# Altium footprint library smd_capacitancies.PcbLib: 13 footprints
Each footprint in its own frame and in the unit in brackets; x right, y up, seen from the top. Pads: shape width x height; smd on the part's side, far side on the other; paste and mask are expansions set on the pad; w line width, h text height; cw(c..) or ccw(c..) is an arc to the next point about the centre after c.
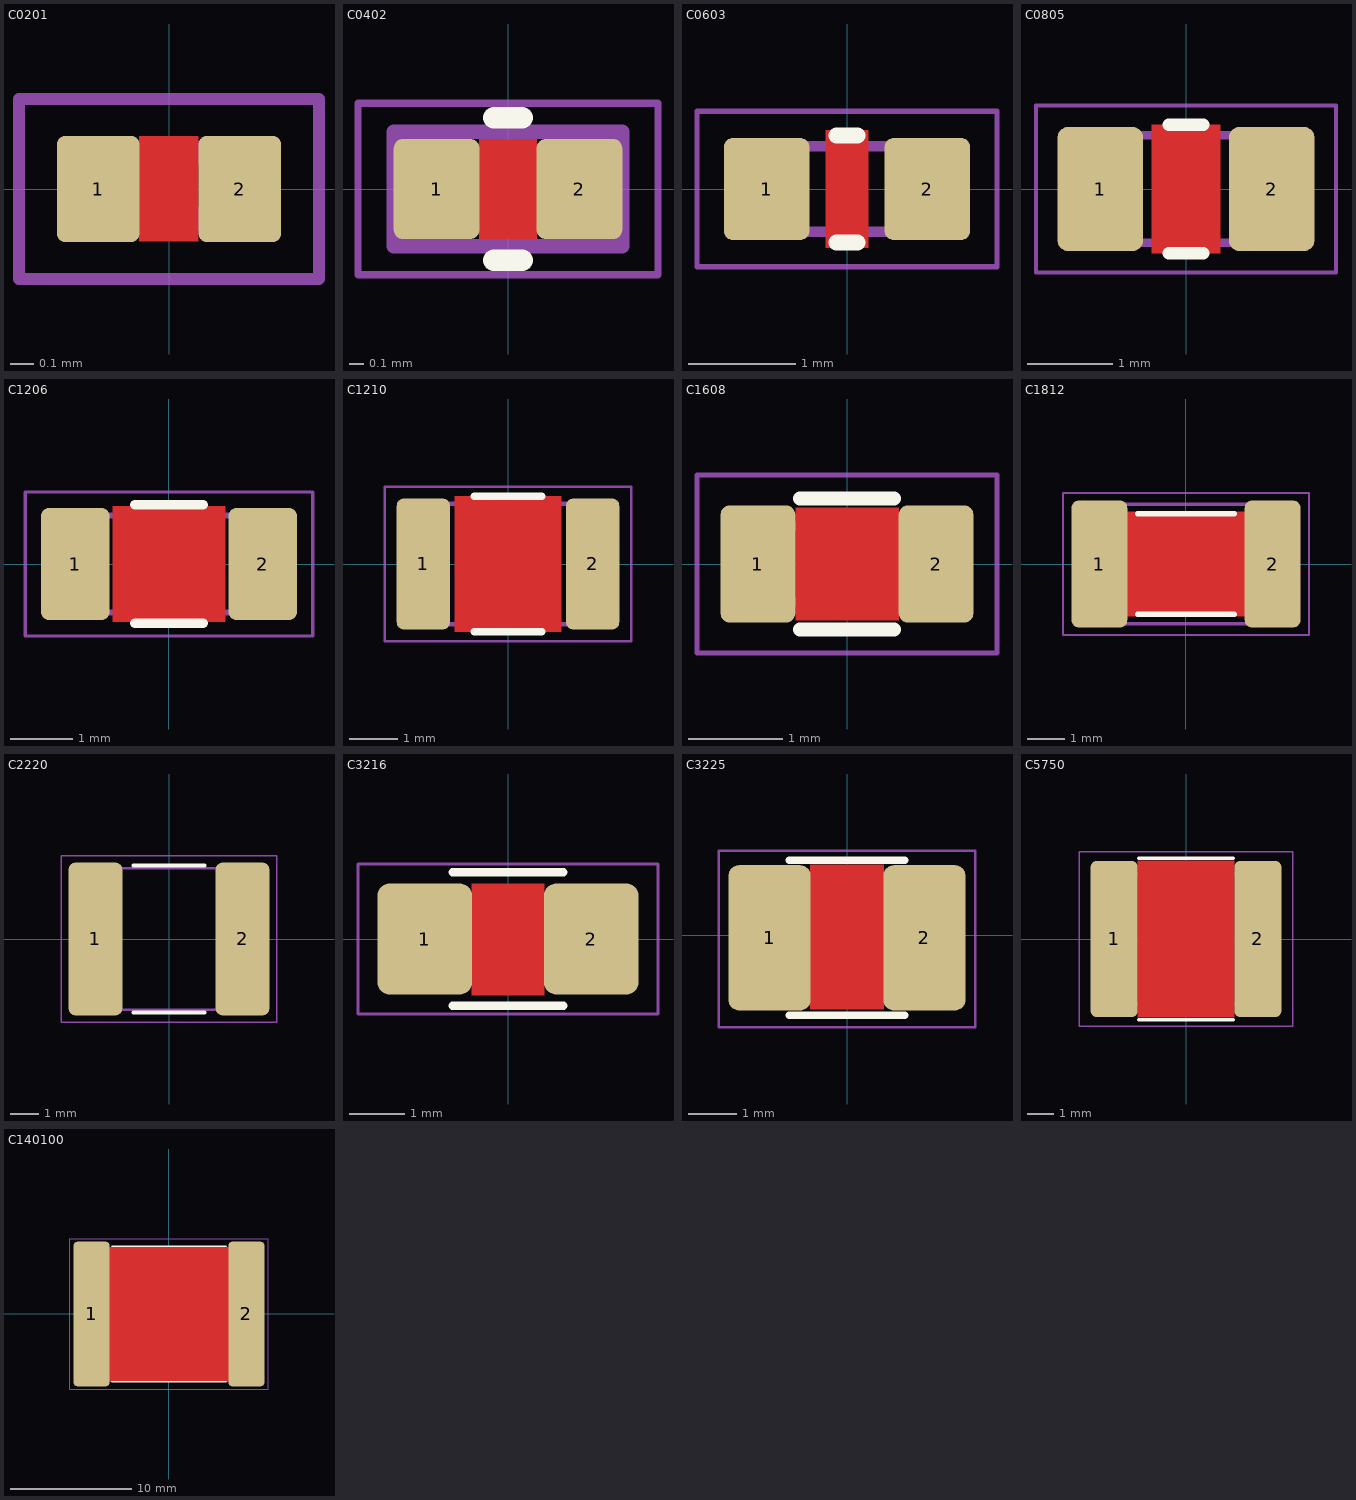
[diagram p0: the footprints below, top view; thin cyan lines are the x and y axes]

## C0201 [mm]
pads (2):
  rrect20% 0.35x0.45 smd: 1(-0.3,0) 2(0.3,0)
Top Layer:
  pour cut-out: 0.125,-0.221 0.125,0.223 -0.127,0.223 -0.127,-0.221
Top Assembly:
  lines w0.1: -0.306,-0.127 -0.306,0.154 0.299,0.154 0.299,-0.127 -0.306,-0.127
  text ".Designator" at -4.998,-0.333 h1
Top Courtyard (Mech15):
  lines w0.05: -0.635,-0.381 0.635,-0.381 0.635,0.381 -0.635,0.381 -0.635,-0.381
3D body "User Library-SMD CAPACITOR.STEP": height 0.15, standoff -0.15, extent -0.3,-0.15 0.3,0.15

## C0402 [mm]
pads (2):
  rrect20% 0.6x0.7 smd: 1(-0.5,0) 2(0.5,0)
Top Layer:
  pour cut-out: 0.2,-0.35 0.2,0.35 -0.2,0.35 -0.2,-0.35
Top Overlay:
  lines w0.15: -0.1,-0.5 0.1,-0.5 ; -0.1,0.5 0.1,0.5
Top Assembly:
  lines w0.1: -0.8,-0.4 0.8,-0.4 0.8,0.4 -0.8,0.4 -0.8,-0.4
  text ".Designator" at -4.998,-0.333 h1
Top Courtyard (Mech15):
  lines w0.05: -1.05,-0.6 -1.05,0.6 1.05,0.6 1.05,-0.6 -1.05,-0.6
3D body "Ceramic_Capacitor_0402_h20mil.step": height 0.52, standoff 0.01, extent -0.508,-0.254 0.508,0.254

## C0603 [mm]
pads (2):
  rrect20% 0.8x0.95 smd: 1(-0.75,0) 2(0.75,0)
Top Layer:
  pour cut-out: 0.2,-0.55 0.2,0.55 -0.2,0.55 -0.2,-0.55
Top Overlay:
  lines w0.15: -0.1,-0.5 0.1,-0.5 ; -0.1,0.5 0.1,0.5
Top Assembly:
  lines w0.1: -0.8,-0.4 0.8,-0.4 0.8,0.4 -0.8,0.4 -0.8,-0.4
  text ".Designator" at -4.998,-0.333 h1
Top Courtyard (Mech15):
  lines w0.05: -1.4,-0.725 -1.4,0.725 1.4,0.725 1.4,-0.725 -1.4,-0.725
3D body "SW3dPS-0603 SMD Capacitor.STEP": height 0.3, standoff 0, extent -0.8,-0.4 0.8,0.4

## C0805 [mm]
pads (2):
  rrect25% 1x1.45 smd: 1(-1,0) 2(1,0)
Top Layer:
  pour cut-out: -0.4,0.75 -0.4,-0.75 0.4,-0.75 0.4,0.75
Top Overlay:
  lines w0.15: -0.2,-0.75 0.2,-0.75 ; -0.2,0.75 0.2,0.75
Top Assembly:
  lines w0.1: -1.025,-0.625 -1.025,0.625 1,0.625 1,-0.625 -1.025,-0.625
  text ".Designator" at -4.998,-0.333 h1
Top Courtyard (Mech15):
  lines w0.05: -1.75,-0.975 -1.75,0.975 1.75,0.975 1.75,-0.975 -1.75,-0.975
3D body "SW3dPS-0805 SMD Capacitor.STEP": height 0.78, standoff 0, extent -1,-0.625 1,0.625

## C1206 [mm]
pads (2):
  rrect25% 1.1x1.8 smd: 1(-1.5,0) 2(1.5,0)
Top Layer:
  pour cut-out: -0.9,0.925 -0.9,-0.925 0.9,-0.925 0.9,0.925
Top Overlay:
  lines w0.15: -0.55,-0.95 0.55,-0.95 ; -0.55,0.95 0.55,0.95
Top Assembly:
  lines w0.1: -1.6,-0.775 -1.6,0.775 1.6,0.775 1.6,-0.775 -1.6,-0.775
  text ".Designator" at -4.998,-0.333 h1
Top Courtyard (Mech15):
  lines w0.05: -2.3,-1.15 -2.3,1.15 2.3,1.15 2.3,-1.15 -2.3,-1.15
3D body "SW3dPS-1206 SMD Capacitor.STEP": height 1, standoff 0, extent -1.6,-0.8 1.6,0.8

## C1210 [mm]
pads (2):
  rrect25% 1.1x2.7 smd: 1(-1.75,0) 2(1.75,0)
Top Layer:
  pour cut-out: -1.1,1.4 -1.1,-1.4 1.1,-1.4 1.1,1.4
Top Overlay:
  lines w0.15: -0.7,-1.4 0.7,-1.4 ; -0.7,1.4 0.7,1.4
Top Assembly:
  lines w0.1: -2,-1.244 -2,1.245 2,1.245 2,-1.244 -2,-1.244
  text ".Designator" at -4.998,-0.333 h1
Top Courtyard (Mech15):
  lines w0.05: -2.55,-1.6 2.55,-1.6 2.55,1.6 -2.55,1.6 -2.55,-1.6
3D body "User Library-1210(3225M) Cap.STEP": height 1.7, standoff 0, extent -2,-1.244 2,1.245

## C1608 [mm]
pads (2):
  rrect25% 0.8x1.25 smd: 1(-0.95,0) 2(0.95,0)
Top Layer:
  pour cut-out: 0.552,-0.601 0.552,0.6 -0.548,0.6 -0.548,-0.601
Top Overlay:
  lines w0.15: -0.5,-0.7 0.5,-0.7 ; -0.5,0.7 0.5,0.7
Top Assembly:
  lines w0.1: -0.9,-0.4 -0.9,0.4 0.9,0.4 0.9,-0.4 -0.9,-0.4
  text ".Designator" at -4.998,-0.333 h1
Top Courtyard (Mech15):
  lines w0.05: -1.6,-0.95 1.6,-0.95 1.6,0.95 -1.6,0.95 -1.6,-0.95
3D body: height 0.8, standoff 0, extent -0.9,-0.4 0.9,0.4

## C1812 [mm]
height 0.65
pads (2):
  rrect25% 1.5x3.4 smd: 1(-2.325,0) 2(2.325,0)
Top Layer:
  pour cut-out: 1.6,-1.4 1.6,1.4 -1.6,1.4 -1.6,-1.4
Top Overlay:
  lines w0.15: -1.3,-1.35 1.3,-1.35 ; -1.3,1.35 1.3,1.35
Top Assembly:
  lines w0.1: -2.3,-1.6 2.3,-1.6 2.3,1.6 -2.3,1.6 -2.3,-1.6
  text ".Designator" at -4.998,-0.333 h1
Top Courtyard (Mech15):
  lines w0.05: -3.302,-1.905 3.302,-1.905 3.302,1.905 -3.302,1.905 -3.302,-1.905
3D body: height 0.55, standoff 0, extent -2.3,-1.6 2.3,1.6

## C2220 [mm]
pads (2):
  rrect25% 1.9x5.4 smd: 1(-2.6,0) 2(2.6,0)
Top Overlay:
  lines w0.15: -1.25,-2.6 1.25,-2.6 ; -1.25,2.6 1.25,2.6
Top Assembly:
  lines w0.1: -2.85,-2.5 -2.85,2.5 2.85,2.5 2.85,-2.5 -2.85,-2.5
  text ".Designator" at -4.998,-0.333 h1
Top Courtyard (Mech15):
  lines w0.05: -3.8,-2.95 3.8,-2.95 3.8,2.95 -3.8,2.95 -3.8,-2.95
3D body "User Library-CAPC5750X23.step": height 2.3, standoff 0, extent -2.85,-2.5 2.85,2.5

## C3216 [mm]
pads (2):
  rrect25% 1.7x2 smd: 1(-1.5,0) 2(1.5,0)
Top Layer:
  pour cut-out: 0.65,-1.016 0.65,0.992 -0.649,0.992 -0.649,-1.016
Top Overlay:
  lines w0.15: -1,-1.2 1,-1.2 ; -1,1.2 1,1.2
Top Assembly:
  lines w0.05: -1.6,-0.55 -1.6,-0.55
  lines w0.1: -1.6,-0.8 1.6,-0.8 1.6,0.8 -1.6,0.8 -1.6,-0.8
  text ".Designator" at -4.998,-0.333 h1
Top Courtyard (Mech15):
  lines w0.05: -2.7,-1.35 2.7,-1.35 2.7,1.35 -2.7,1.35 -2.7,-1.35
3D body: height 1.2, standoff 0, extent -1.6,-0.8 1.6,0.8

## C3225 [mm]
pads (2):
  rrect25% 1.7x3 smd: 1(-1.6,-0.05) 2(1.6,-0.05)
Top Layer:
  pour cut-out: 0.762,-1.524 0.762,1.459 -0.762,1.459 -0.762,-1.524
Top Overlay:
  lines w0.15: -1.2,-1.65 1.2,-1.65 ; -1.2,1.55 1.2,1.55
Top Assembly:
  lines w0.1: -1.6,-1.3 1.6,-1.3 1.6,1.2 -1.6,1.2 -1.6,-1.3
  text ".Designator" at -4.998,-0.333 h1
Top Courtyard (Mech15):
  lines w0.05: -2.65,-1.9 -2.65,1.75 2.65,1.75 2.65,-1.9 -2.65,-1.9
3D body: height 1.3, standoff 0, extent -1.6,-1.3 1.6,1.2

## C5750 [mm]
pads (2):
  rrect25% 1.8x6 smd: 1(-2.76,0) 2(2.76,0)
Top Layer:
  pour cut-out: 1.862,-3 1.862,3 -1.858,3 -1.858,-3
Top Overlay:
  lines w0.15: -1.8,-3.1 1.8,-3.1 ; -1.8,3.1 1.8,3.1
Top Assembly:
  lines w0.1: -2.85,-2.5 -2.85,2.5 2.85,2.5 2.85,-2.5 -2.85,-2.5
  text ".Designator" at -4.998,-0.333 h1
Top Courtyard (Mech15):
  lines w0.05: -4.1,-3.35 -4.1,3.35 4.1,3.35 4.1,-3.35 -4.1,-3.35
3D body: height 3.8, standoff 0, extent -2.85,-2.5 2.85,2.5

## C140100 [mm]
pads (2):
  rrect25% 3x12 smd: 1(-6.4,0) 2(6.4,0)
Top Layer:
  pour cut-out: 5.147,-5.6 5.147,5.5 -5,5.5 -5,-5.6
Top Overlay:
  lines w0.15: -4.7,-5.6 4.7,-5.6 ; -4.7,5.6 4.7,5.6
Top Assembly:
  lines w0.1: -6.6,-5.3 6.6,-5.3 6.6,5.3 -6.6,5.3 -6.6,-5.3
  text ".Designator" at -4.998,-0.333 h1
Top Courtyard (Mech15):
  lines w0.05: -8.2,-6.2 -8.2,6.2 8.2,6.2 8.2,-6.2 -8.2,-6.2
3D body: height 4.6, standoff 0, extent -6.6,-5.3 6.6,5.3